# Altium schematic symbol library Reg_DPAK−3.SchLib: 1 symbol
Pins are listed as number, name and electrical type; pins without a type are passive.

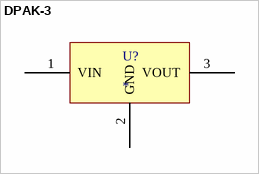
[diagram p0: symbol DPAK-3]

## DPAK-3
designator U?
footprint DPAK-3
pins: 1 VIN, 2 GND, 3 VOUT